# Altium footprint library WURTH_S14100038.PcbLib: 1 footprints
Each footprint in its own frame and in the unit in brackets; x right, y up, seen from the top. Pads: shape width x height; smd on the part's side, far side on the other; paste and mask are expansions set on the pad; w line width, h text height; cw(c..) or ccw(c..) is an arc to the next point about the centre after c.
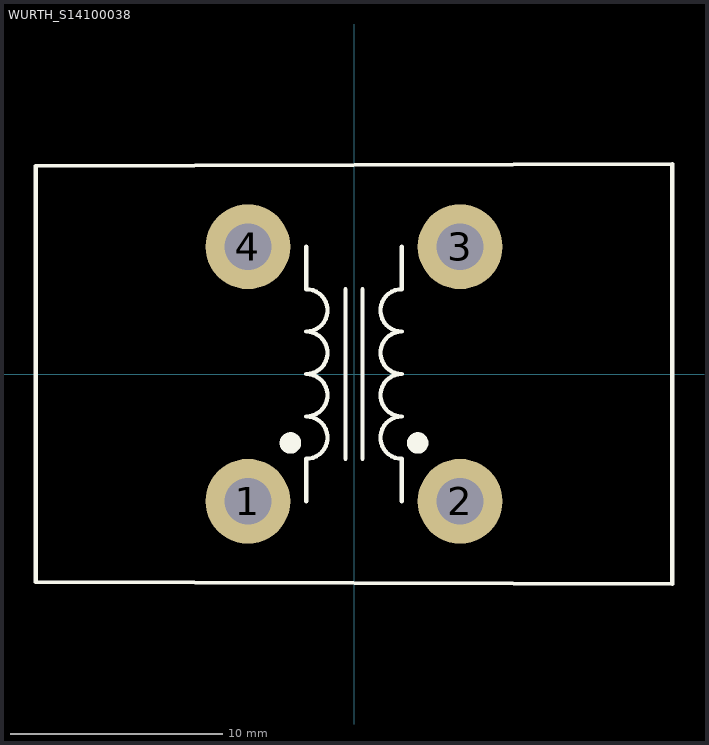
[diagram p0: the footprint, top view; thin cyan lines are the x and y axes]

## WURTH_S14100038 [mm] "Wurth Common-Mode-Choke S14100038"
pads (4):
  round 4 hole 2.2: 1(-5,-6) 2(5,-6) 3(5,6) 4(-5,6)
Top Overlay:
  circle w0.5: c3,-3.25 r0.255
  circle w0.5: c-3,-3.25 r0.255
  lines w0.2: -2.25,-6 -2.25,-4 ccw(c-2.25,-3) -2.25,-2 ccw(c-2.25,-1) -2.25,0 ccw(c-2.25,1) -2.25,2 ccw(c-2.25,3) -2.25,4 -2.25,6 ; -0.4,-4 -0.4,4 ; 0.4,-4 0.4,4 ; 2.25,-6 2.25,-4 cw(c2.25,-3) 2.25,-2 cw(c2.25,-1) 2.25,0 cw(c2.25,1) 2.25,2 cw(c2.25,3) 2.25,4 2.25,6 ; -15,-9.8 -15,9.8 15,9.9 15,-9.9 -15,-9.8
3D body: height 29, standoff 0, extent -15,-9.9 15,9.9